# Altium footprint library Ethernet Connectors.PcbLib: 1 footprints
Each footprint in its own frame and in the unit in brackets; x right, y up, seen from the top. Pads: shape width x height; smd on the part's side, far side on the other; paste and mask are expansions set on the pad; w line width, h text height; cw(c..) or ccw(c..) is an arc to the next point about the centre after c.
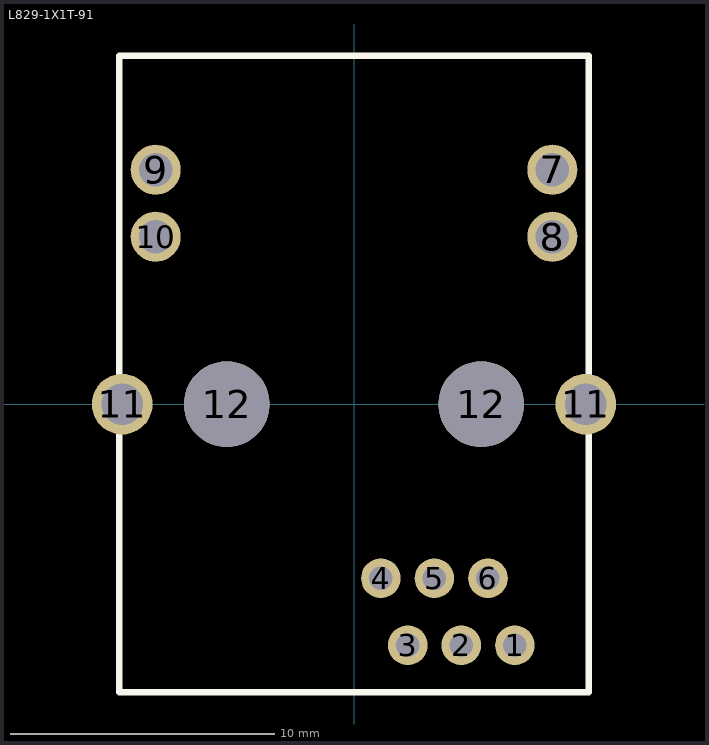
[diagram p0: the footprint, top view; thin cyan lines are the x and y axes]

## L829-1X1T-91 [mm]
pads (14):
  round 1.5 hole 0.89: 1(6.1,-9.14) 2(4.07,-9.14) 3(2.04,-9.14) 4(1.02,-6.6) 5(3.05,-6.6) 6(5.08,-6.6)
  round 1.9 hole 1.27: 7(7.52,8.89) 8(7.52,6.35) 9(-7.52,8.89) 10(-7.52,6.35)
  round 2.3 hole 1.57: 11(-8.79,0) 11(8.79,0)
  round 3.25 hole 3.25 unplated: 12(-4.825,0) 12(4.825,0)
Top Overlay:
  lines w0.254: -8.9,-10.92 -8.9,13.21 8.9,13.21 8.9,-10.92 -8.9,-10.92
3D body: height 11.3, standoff 0, extent -8.9,-11.007 8.9,13.21